# Altium schematic symbol library INA250.SchLib: 1 symbol
Pins are listed as number, name and electrical type; pins without a type are passive.

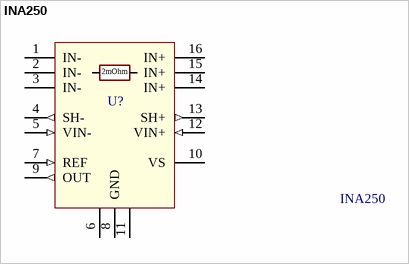
[diagram p0: symbol INA250]

## INA250
designator U?
36-V, Low- or High-Side, Bidirectional, Zero-Drift  Current-Shunt Monitor with Precision Integrated Shunt Resistor; Manufacturer: Texas Instruments; Note: Applies to INA250A1, INA250A2, INA250A3, INA250A4; Mouser link: *; Value: INA250
footprint INA250 (TTSOP, 16-Leads, Body 5.00x4.40mm, Pitch 0.65mm, IPC Medium Density)
pins: 1 IN- (power), 2 IN-, 3 IN-, 4 SH- (out), 5 VIN- (in), 6 GND (power), 7 REF (in), 8 GND (power), 9 OUT (out), 10 VS (power), 11 GND (power), 12 VIN+ (in), 13 SH+ (out), 14 IN+, 15 IN+, 16 IN+
text: 2mOhm